# EAGLE library part 1-1586041-0 (library HyperTriangle)
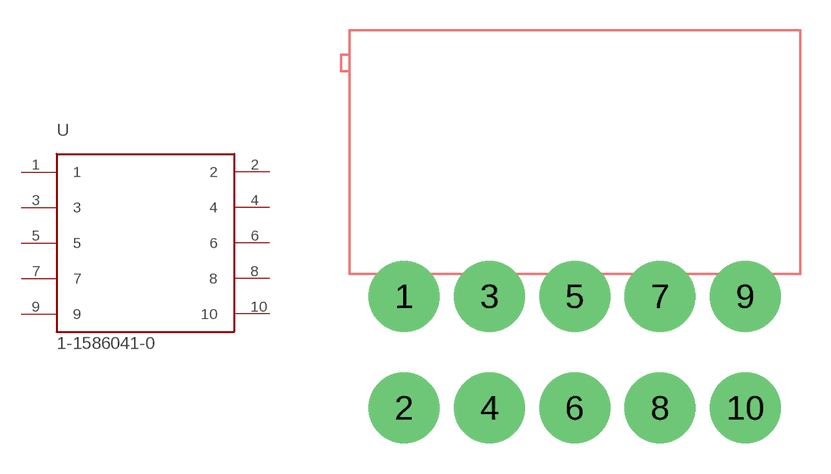
[diagram p3: symbol with the pads of 1-1586041-0; footprint 1-1586041-0]

Designator prefix -

## 1-1586041-0  [1-1586041-0]
1  1
2  2
3  3
4  4
5  5
6  6
7  7
8  8
9  9
10  10

## Footprint 1-1586041-0 (pad centres in mm)
drill 2 pad 3.5: 1 0,5.5; 2 0,0; 3 4.2,5.5; 4 4.2,0; 5 8.4,5.5; 6 8.4,0; 7 12.6,5.5; 8 12.6,0; 9 16.8,5.5; 10 16.8,0